# Altium footprint library MINI USB.PcbLib: 1 footprints
Each footprint in its own frame and in the unit in brackets; x right, y up, seen from the top. Pads: shape width x height; smd on the part's side, far side on the other; paste and mask are expansions set on the pad; w line width, h text height; cw(c..) or ccw(c..) is an arc to the next point about the centre after c.
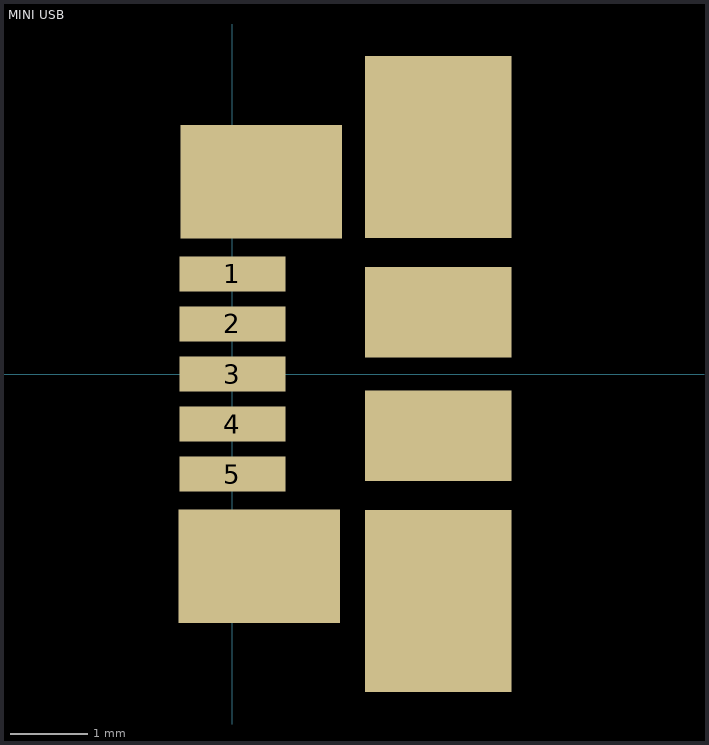
[diagram p0: the footprint, top view; thin cyan lines are the x and y axes]

## MINI USB [mm]
pads (11):
  rect 1.38x0.45 smd: 1(0,1.3) 2(0,0.65) 3(0,0) 4(0,-0.65) 5(0,-1.3)
  rect 2.1x1.475 smd: ""(0.35,-2.5) ""(0.375,2.5)
  rect 1.9x2.37 smd: ""(2.675,-2.95) ""(2.675,2.95)
  rect 1.9x1.175 smd: ""(2.675,-0.8) ""(2.675,0.8)
3D body "473460001.stp": height -0.33, standoff -3.27, extent -0.725,-4 4.705,3.98